# Altium footprint library RPS-45-1.PcbLib: 1 footprints
Each footprint in its own frame and in the unit in brackets; x right, y up, seen from the top. Pads: shape width x height; smd on the part's side, far side on the other; paste and mask are expansions set on the pad; w line width, h text height; cw(c..) or ccw(c..) is an arc to the next point about the centre after c.
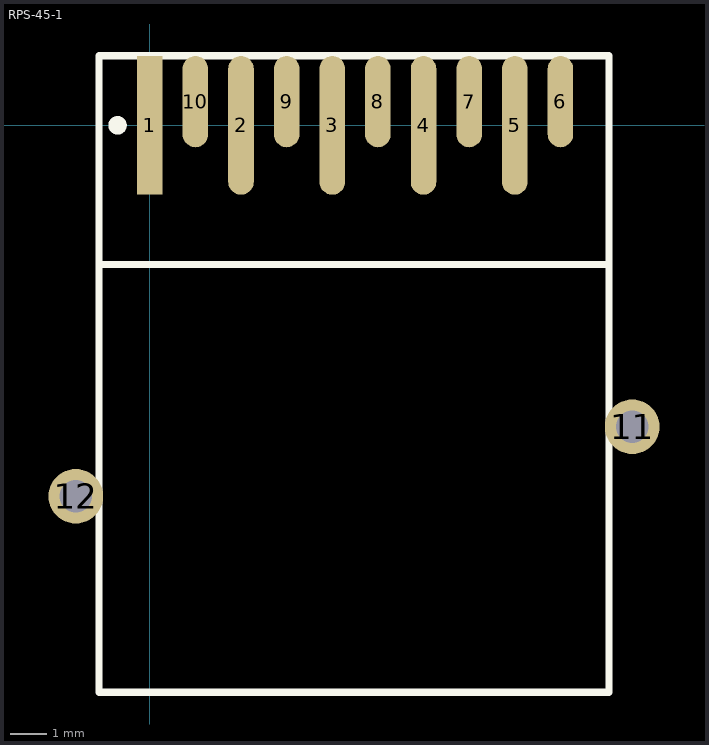
[diagram p0: the footprint, top view; thin cyan lines are the x and y axes]

## RPS-45-1 [mm]
pads (12):
  rect 0.7x3.8 smd: 1(-0.007,0)
  oval 0.7x3.8 smd: 2(2.493,0) 3(4.993,0) 4(7.493,0) 5(9.993,0)
  oval 0.7x2.5 smd: 6(11.243,0.65) 7(8.743,0.65) 8(6.243,0.65) 9(3.743,0.65) 10(1.243,0.65)
  round 1.5 hole 0.9: 11(13.208,-8.255) 12(-2.032,-10.16)
Top Overlay:
  circle w0.254: c-0.889,0 r0.127
  lines w0.2: -1.397,-3.81 12.573,-3.81 ; -1.397,-15.526 12.573,-15.526 12.573,1.905 -1.397,1.905 -1.397,-15.526
Mechanical 15:
  text "'.Designator'" at -1.17,-10.437 h2
3D body "RPS45-1.STEP": height 6.5, standoff 0, extent -0.635,-16.366 11.865,1.634